# Altium schematic symbol library LT3042IDDTRPBF.SchLib: 1 symbol
Pins are listed as number, name and electrical type; pins without a type are passive.

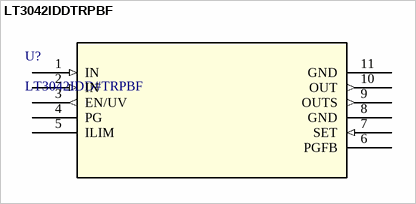
[diagram p0: symbol LT3042IDDTRPBF]

## LT3042IDDTRPBF
designator U?, comment LT3042IDD#TRPBF
20V, 200mA, Ultralow Noise, Ultrahigh PSRR RF Linear Regulator; Manufacturer_Name: Analog Devices Inc; Copyright: Copyright (C) 2026 Ultra Librarian. All rights reserved.; Manufacturer_Part_Number: LT3042IDD#TRPBF; RefDes: RefDes; Type: Type
footprint DFN-10_DD_LIT
pins: 1 IN (in), 2 IN (in), 3 EN/UV (out), 4 PG (power), 5 ILIM, 6 PGFB (power), 7 SET (in), 8 GND (power), 9 OUTS (out), 10 OUT (out), 11 GND (power)